# Altium footprint library Capacitors_Ceramic_SMD.PcbLib: 24 footprints (part 2 of 2)
Each footprint in its own frame and in the unit in brackets; x right, y up, seen from the top. Pads: shape width x height; smd on the part's side, far side on the other; paste and mask are expansions set on the pad; w line width, h text height; cw(c..) or ccw(c..) is an arc to the next point about the centre after c.
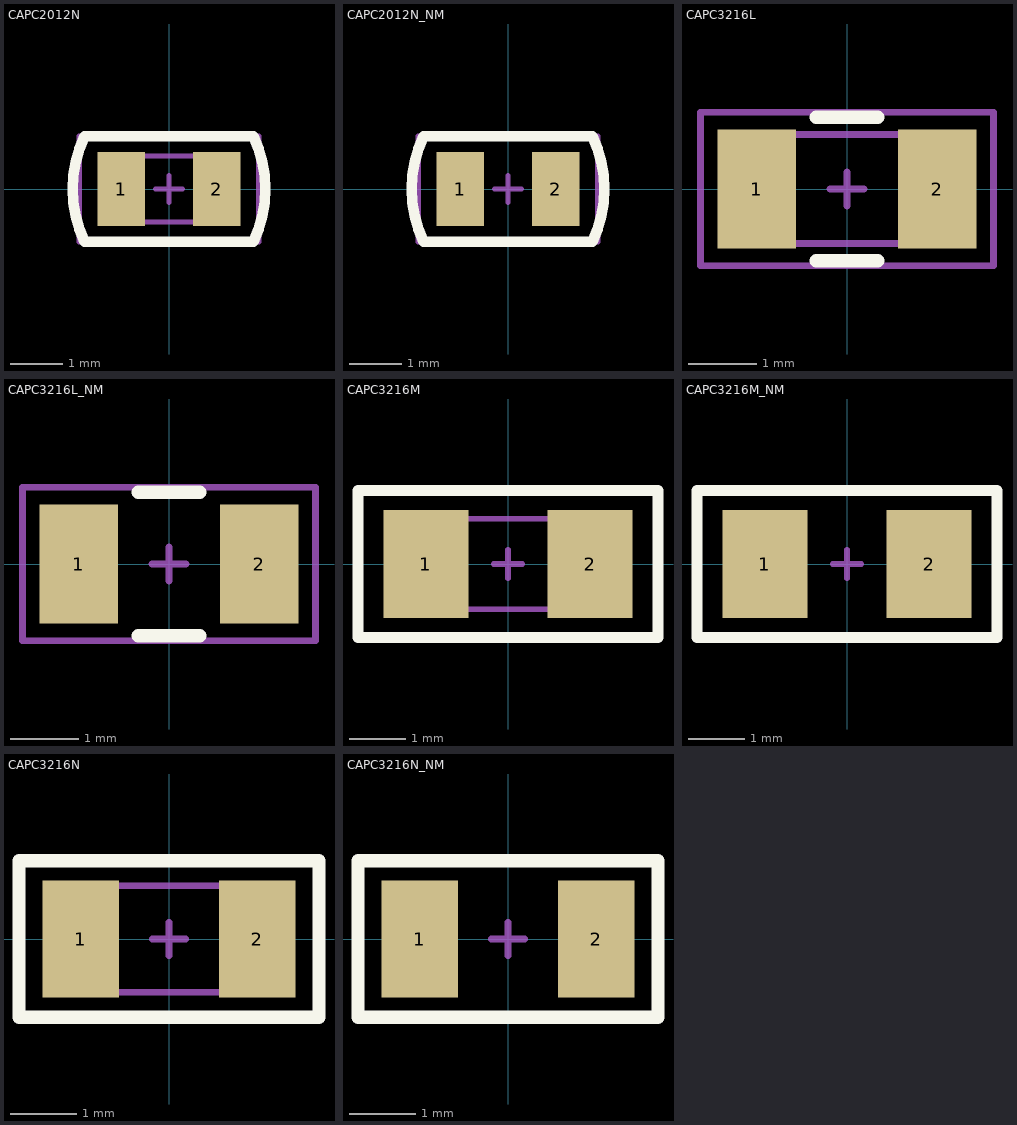
[diagram p1: the footprints below, top view; thin cyan lines are the x and y axes]

## CAPC2012N [mm] "Chip Resistor, Body 2.0x1.2mm, IPC High Density"
height 1.45
pads (2):
  rect 0.9x1.4 smd: 1(-0.9,0) 2(0.9,0)
Top Overlay:
  lines w0.2: -1.6,-1 cw(c0.508,0) -1.6,1 1.6,1 cw(c-0.508,0) 1.6,-1 -1.6,-1
Top Package:
  lines w0.1: -0.625,-0.625 -0.625,0.625 ; 0.6,-0.625 0.6,0.625 ; -1,-0.625 -1,0.625 1,0.625 1,-0.625 -1,-0.625
Top Border:
  lines w0.1: -0.25,0 0.25,0 ; 0,-0.25 0,0.25 ; -1.7,-1 1.7,-1 1.7,1 -1.7,1 -1.7,-1
3D body "CAPC2012.step": height 0.57, standoff 0, extent -1,-0.635 1,0.635

## CAPC2012N_NM [mm] "Chip Resistor, Body 2.0x1.2mm, IPC High Density"
height 1.45
pads (2):
  rect 0.9x1.4 smd: 1(-0.9,0) 2(0.9,0)
Top Overlay:
  lines w0.2: -1.6,-1 cw(c0.508,0) -1.6,1 1.6,1 cw(c-0.508,0) 1.6,-1 -1.6,-1
Top Border:
  lines w0.1: -0.25,0 0.25,0 ; 0,-0.25 0,0.25 ; -1.7,-1 1.7,-1 1.7,1 -1.7,1 -1.7,-1

## CAPC3216L [mm] "Chip Capacitor Body 3.2x1.6mm, IPC High Density"
height 1.8
pads (2):
  rect 1.15x1.75 smd: 1(-1.325,0) 2(1.325,0)
Top Overlay:
  lines w0.2: -0.45,-1.05 0.45,-1.05 ; -0.45,1.05 0.45,1.05
Top Package:
  lines w0.1: -1.2,-0.8 -1.2,0.8 ; 1.2,-0.8 1.2,0.8 ; -1.6,-0.8 -1.6,0.8 1.6,0.8 1.6,-0.8 -1.6,-0.8
Top Border:
  lines w0.1: -0.25,0 0.25,0 ; 0,-0.25 0,0.25 ; -2.15,-1.125 2.15,-1.125 2.15,1.125 -2.15,1.125 -2.15,-1.125
3D body "CAPC3216.step": height 1.02, standoff 0, extent -1.6,-0.835 1.6,0.785

## CAPC3216L_NM [mm] "Chip Capacitor Body 3.2x1.6mm, IPC High Density"
height 1.8
pads (2):
  rect 1.15x1.75 smd: 1(-1.325,0) 2(1.325,0)
Top Overlay:
  lines w0.2: -0.45,-1.05 0.45,-1.05 ; -0.45,1.05 0.45,1.05
Top Border:
  lines w0.1: -0.25,0 0.25,0 ; 0,-0.25 0,0.25 ; -2.15,-1.125 2.15,-1.125 2.15,1.125 -2.15,1.125 -2.15,-1.125

## CAPC3216M [mm] "Chip Capacitor Body 3.2x1.6mm, IPC High Density"
height 1.8
pads (2):
  rect 1.5x1.9 smd: 1(-1.45,0) 2(1.45,0)
Top Overlay:
  lines w0.2: -2.65,-1.3 -2.65,1.3 2.65,1.3 2.65,-1.3 -2.65,-1.3
Top Package:
  lines w0.1: -1.2,-0.8 -1.2,0.8 ; 1.2,-0.8 1.2,0.8 ; -1.6,-0.8 1.6,-0.8 1.6,0.8 -1.6,0.8 -1.6,-0.8
Top Border:
  lines w0.1: -0.25,0 0.25,0 ; 0,-0.25 0,0.25 ; -2.65,-1.3 -2.65,1.3 2.65,1.3 2.65,-1.3 -2.65,-1.3
3D body "CAPC3216.step": height 1.02, standoff 0, extent -1.6,-0.81 1.6,0.81

## CAPC3216M_NM [mm] "Chip Capacitor Body 3.2x1.6mm, IPC High Density"
height 1.8
pads (2):
  rect 1.5x1.9 smd: 1(-1.45,0) 2(1.45,0)
Top Overlay:
  lines w0.2: -2.65,-1.3 -2.65,1.3 2.65,1.3 2.65,-1.3 -2.65,-1.3
Top Border:
  lines w0.1: -0.25,0 0.25,0 ; 0,-0.25 0,0.25 ; -2.65,-1.3 -2.65,1.3 2.65,1.3 2.65,-1.3 -2.65,-1.3

## CAPC3216N [mm] "Chip Capacitor Body 3.2x1.6mm, IPC High Density"
height 1.8
pads (2):
  rect 1.15x1.75 smd: 1(-1.325,0) 2(1.325,0)
Top Overlay:
  lines w0.2: -2.25,-1.175 2.25,-1.175 2.25,1.175 -2.25,1.175 -2.25,-1.175
Top Package:
  lines w0.1: -1.2,-0.8 -1.2,0.8 ; 1.2,-0.8 1.2,0.8 ; -1.6,-0.8 -1.6,0.8 1.6,0.8 1.6,-0.8 -1.6,-0.8
Top Border:
  lines w0.1: -0.25,0 0.25,0 ; 0,-0.25 0,0.25 ; -2.25,-1.175 2.25,-1.175 2.25,1.175 -2.25,1.175 -2.25,-1.175
3D body "CAPC3216.step": height 1.02, standoff 0, extent -1.6,-0.81 1.6,0.81

## CAPC3216N_NM [mm] "Chip Capacitor Body 3.2x1.6mm, IPC High Density"
height 1.8
pads (2):
  rect 1.15x1.75 smd: 1(-1.325,0) 2(1.325,0)
Top Overlay:
  lines w0.2: -2.25,-1.175 -2.25,1.175 2.25,1.175 2.25,-1.175 -2.25,-1.175
Top Border:
  lines w0.1: -0.25,0 0.25,0 ; 0,-0.25 0,0.25 ; -2.25,-1.175 2.25,-1.175 2.25,1.175 -2.25,1.175 -2.25,-1.175